# Altium footprint library 5-MK60DN512VLL10核心板.PcbLib: 19 footprints (part 2 of 2)
Each footprint in its own frame and in the unit in brackets; x right, y up, seen from the top. Pads: shape width x height; smd on the part's side, far side on the other; paste and mask are expansions set on the pad; w line width, h text height; cw(c..) or ccw(c..) is an arc to the next point about the centre after c.
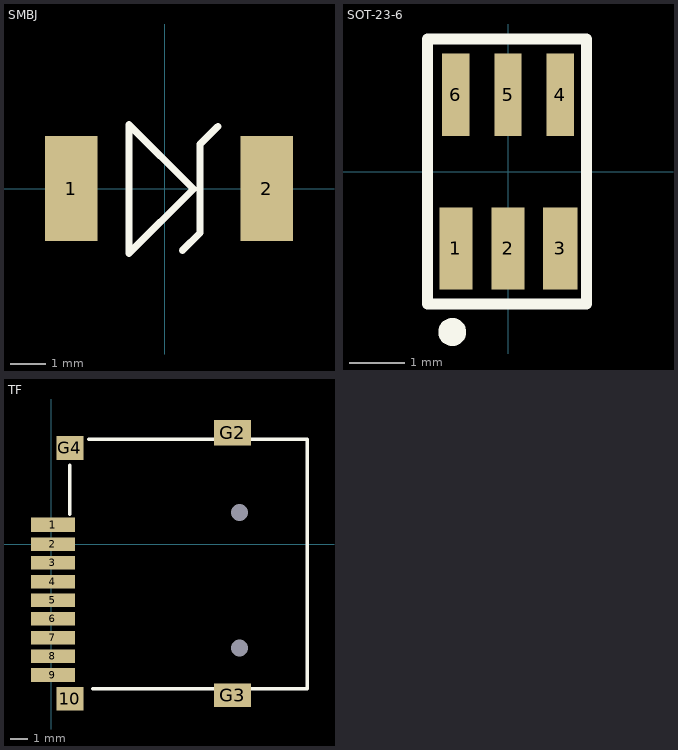
[diagram p1: the footprints below, top view; thin cyan lines are the x and y axes]

## SMBJ [mm]
height 5.72
pads (2):
  rect 1.5x3 smd: 1(-2.667,0) 2(2.921,0)
Top Overlay:
  lines w0.203: 0.508,-1.778 1.016,-1.27 1.016,1.27 1.524,1.778 ; -1.016,-1.854 0.826,-0.013 -1.016,1.829 -1.016,-1.854

## SOT-23-6 [mm]
height 1
pads (6):
  rect 0.6x1.5 smd: 1(-0.95,-1.4) 2(0,-1.4)
  rect 0.63x1.5 smd: 3(0.95,-1.4)
  rect 0.5x1.5 smd: 4(0.95,1.4) 5(0,1.4) 6(-0.95,1.4)
Top Overlay:
  circle w0.254: c-1.016,-2.921 r0.127
  lines w0.203: -1.466,-2.413 -1.466,2.413 1.43,2.413 1.43,-2.413 -1.466,-2.413

## TF [mm]
pads (15):
  rect 2.6x0.85 smd: 1(0.088,1.143)
  rect 2.6x0.8 smd: 2(0.088,0.002) 3(0.088,-1.101) 4(0.088,-2.204) 5(0.088,-3.307) 6(0.088,-4.411) 7(0.088,-5.514) 8(0.088,-6.617) 9(0.088,-7.72)
  rect 1.6x1.4 smd: 10(1.088,-9.12) G4(1.088,5.68)
  round 0 hole 1: 11(11.088,1.88) 12(11.088,-6.12)
  rect 2.2x1.5 smd: G2(10.688,6.58)
  rect 2.2x1.4 smd: G3(10.688,-8.92)
Top Overlay:
  lines w0.203: 1.088,1.751 1.088,4.672 ; 2.198,6.18 15.088,6.18 15.088,-8.52 2.452,-8.52